# EAGLE library part MOTEINO (library vincent)
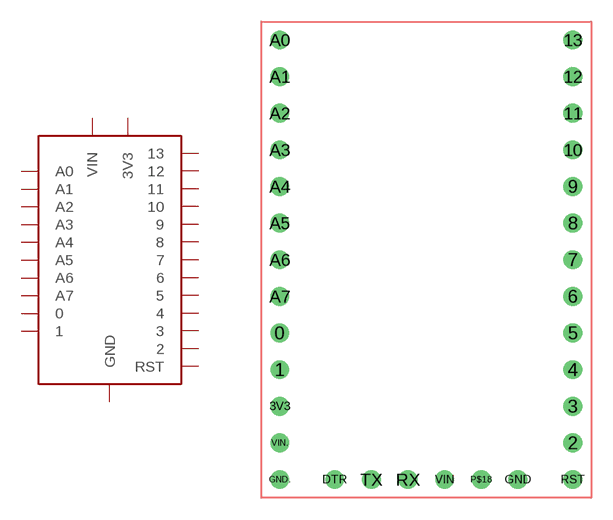
[diagram p2: symbol with the pads of MOTEINO; footprint MOTEINO]

Designator prefix -

## MOTEINO  [MOTEINO]
0  0
1  1
2  2
3  3
3V3  3V3
4  4
5  5
6  6
7  7
8  8
9  9
10  10
11  11
12  12
13  13
A0  A0
A1  A1
A2  A2
A3  A3
A4  A4
A5  A5
A6  A6
A7  A7
GND.  GND
RST  RST
VIN.  VIN

## Footprint MOTEINO (pad centres in mm)
drill 0.8: 0 -10.16,-5.08; 1 -10.16,-7.62; 2 10.16,-12.7; 3 10.16,-10.16; 3V3 -10.16,-10.16; 4 10.16,-7.62; 5 10.16,-5.08; 6 10.16,-2.54; 7 10.16,0; 8 10.16,2.54; 9 10.16,5.08; 10 10.16,7.62; 11 10.16,10.16; 12 10.16,12.7; 13 10.16,15.24; A0 -10.16,15.24; A1 -10.16,12.7; A2 -10.16,10.16; A3 -10.16,7.62; A4 -10.16,5.08; A5 -10.16,2.54; A6 -10.16,0; A7 -10.16,-2.54; DTR -6.35,-15.24; GND 6.35,-15.24; GND. -10.16,-15.24; P$18 3.81,-15.24; RST 10.16,-15.24; RX -1.27,-15.24; TX -3.81,-15.24; VIN 1.27,-15.24; VIN. -10.16,-12.7